# Altium schematic symbol library GCT_USB-Micro.SchLib: 1 symbol
Pins are listed as number, name and electrical type; pins without a type are passive.

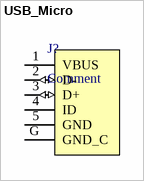
[diagram p0: symbol USB_Micro]

## USB_Micro
designator J?, comment Comment
pins: 1 VBUS (power) "Bus Power", 2 D- (io) "USB Data -", 3 D+ (io) "USB Data +", 4 ID "Identification Pin", 5 GND (power) "Ground return", G GND_C (power) "Chassis ground"